# Altium schematic symbol library CDCM6208V2RGZR.SchLib: 1 symbol
Pins are listed as number, name and electrical type; pins without a type are passive.

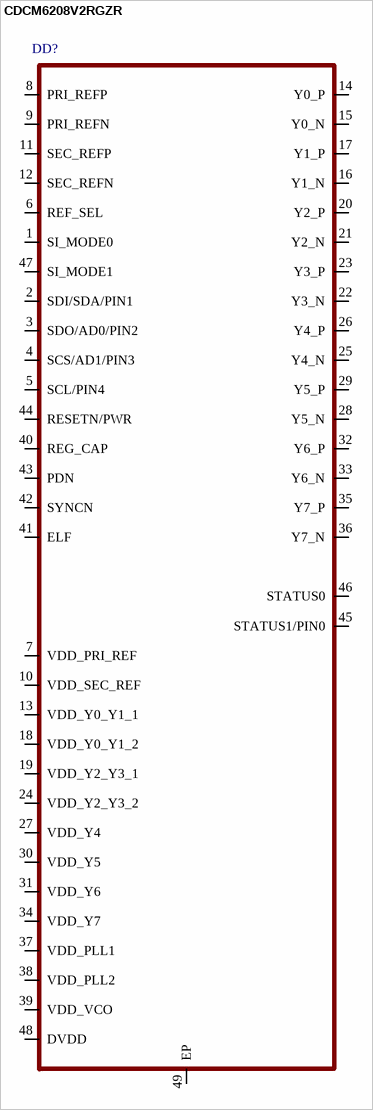
[diagram p0: symbol CDCM6208V2RGZR]

## CDCM6208V2RGZR
designator DD?
pins: 1 SI_MODE0, 2 SDI/SDA/PIN1, 3 SDO/AD0/PIN2, 4 SCS/AD1/PIN3, 5 SCL/PIN4, 6 REF_SEL, 7 VDD_PRI_REF, 8 PRI_REFP, 9 PRI_REFN, 10 VDD_SEC_REF, 11 SEC_REFP, 12 SEC_REFN, 13 VDD_Y0_Y1_1, 14 Y0_P, 15 Y0_N, 16 Y1_N, 17 Y1_P, 18 VDD_Y0_Y1_2, 19 VDD_Y2_Y3_1, 20 Y2_P, 21 Y2_N, 22 Y3_N, 23 Y3_P, 24 VDD_Y2_Y3_2, 25 Y4_N, 26 Y4_P, 27 VDD_Y4, 28 Y5_N, 29 Y5_P, 30 VDD_Y5, 31 VDD_Y6, 32 Y6_P, 33 Y6_N, 34 VDD_Y7, 35 Y7_P, 36 Y7_N, 37 VDD_PLL1, 38 VDD_PLL2, 39 VDD_VCO, 40 REG_CAP, 41 ELF, 42 SYNCN, 43 PDN, 44 RESETN/PWR, 45 STATUS1/PIN0, 46 STATUS0, 47 SI_MODE1, 48 DVDD, 49 EP